# EAGLE library part MMA7261 (library Mine)
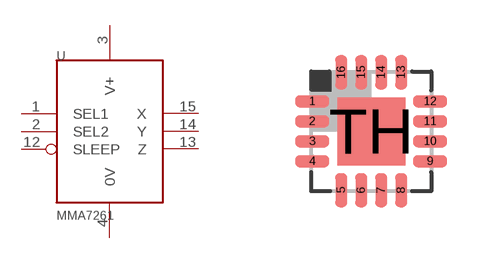
[diagram p29: symbol with the pads of QFN16; footprint QFN16]

Designator prefix -

## MMA7261  [QFN16]
1  SEL1  in
2  SEL2  in
3  V+  pwr
4  0V  pwr
12  SLEEP  in
13  Z  out
14  Y  out
15  X  out

## Footprint QFN16 (pad centres in mm)
RTE (S-PQFP-N16) 3x3 mm Source: www.ti.com .. tpa6132a2 direct path stereo $.65.pdf
smd 0.85 x 0.3: 1 -1.475,0.75; 2 -1.475,0.25; 3 -1.475,-0.25; 4 -1.475,-0.75; 9 1.475,-0.75; 10 1.475,-0.25; 11 1.475,0.25; 12 1.475,0.75
smd 0.3 x 0.85: 5 -0.75,-1.475; 6 -0.25,-1.475; 7 0.25,-1.475; 8 0.75,-1.475; 13 0.75,1.475; 14 0.25,1.475; 15 -0.25,1.475; 16 -0.75,1.475
smd 1.7 x 1.7: TH 0,0